# EAGLE library part TPS2500 (library CR123aBoost)
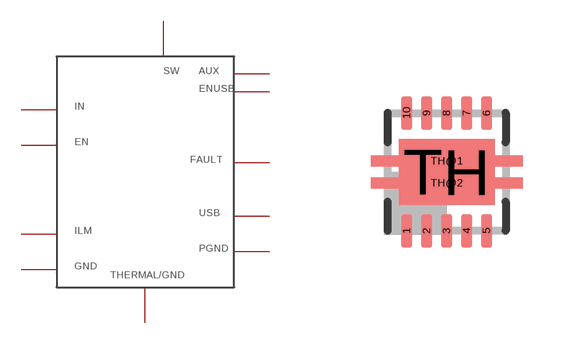
[diagram p0: symbol with the pads of SON-10; footprint SON-10]

Designator prefix -

## TPS2500SON10  [SON-10]
1  SW  sup
2  PGND  sup
3  IN  sup
4  EN  sup
5  GND  sup
6  ILM  sup
7  ENUSB  sup
8  FAULT  sup
9  USB  sup
10  AUX  sup
TH  P$11  sup

## Footprint SON-10 (pad centres in mm)
smd 0.28 x 0.85: 1 -1,-1.475; 2 -0.5,-1.475; 3 0,-1.475; 4 0.5,-1.475; 5 1,-1.475; 6 1,1.475; 7 0.5,1.475; 8 0,1.475; 9 -0.5,1.475; 10 -1,1.475
smd 2.4 x 1.65: TH 0,0
smd 3.8 x 0.28: TH@1 0,0.275; TH@2 0,-0.275